# Altium integrated library Spansion Memory Flash.IntLib: 812 symbols (part 21 of 21)
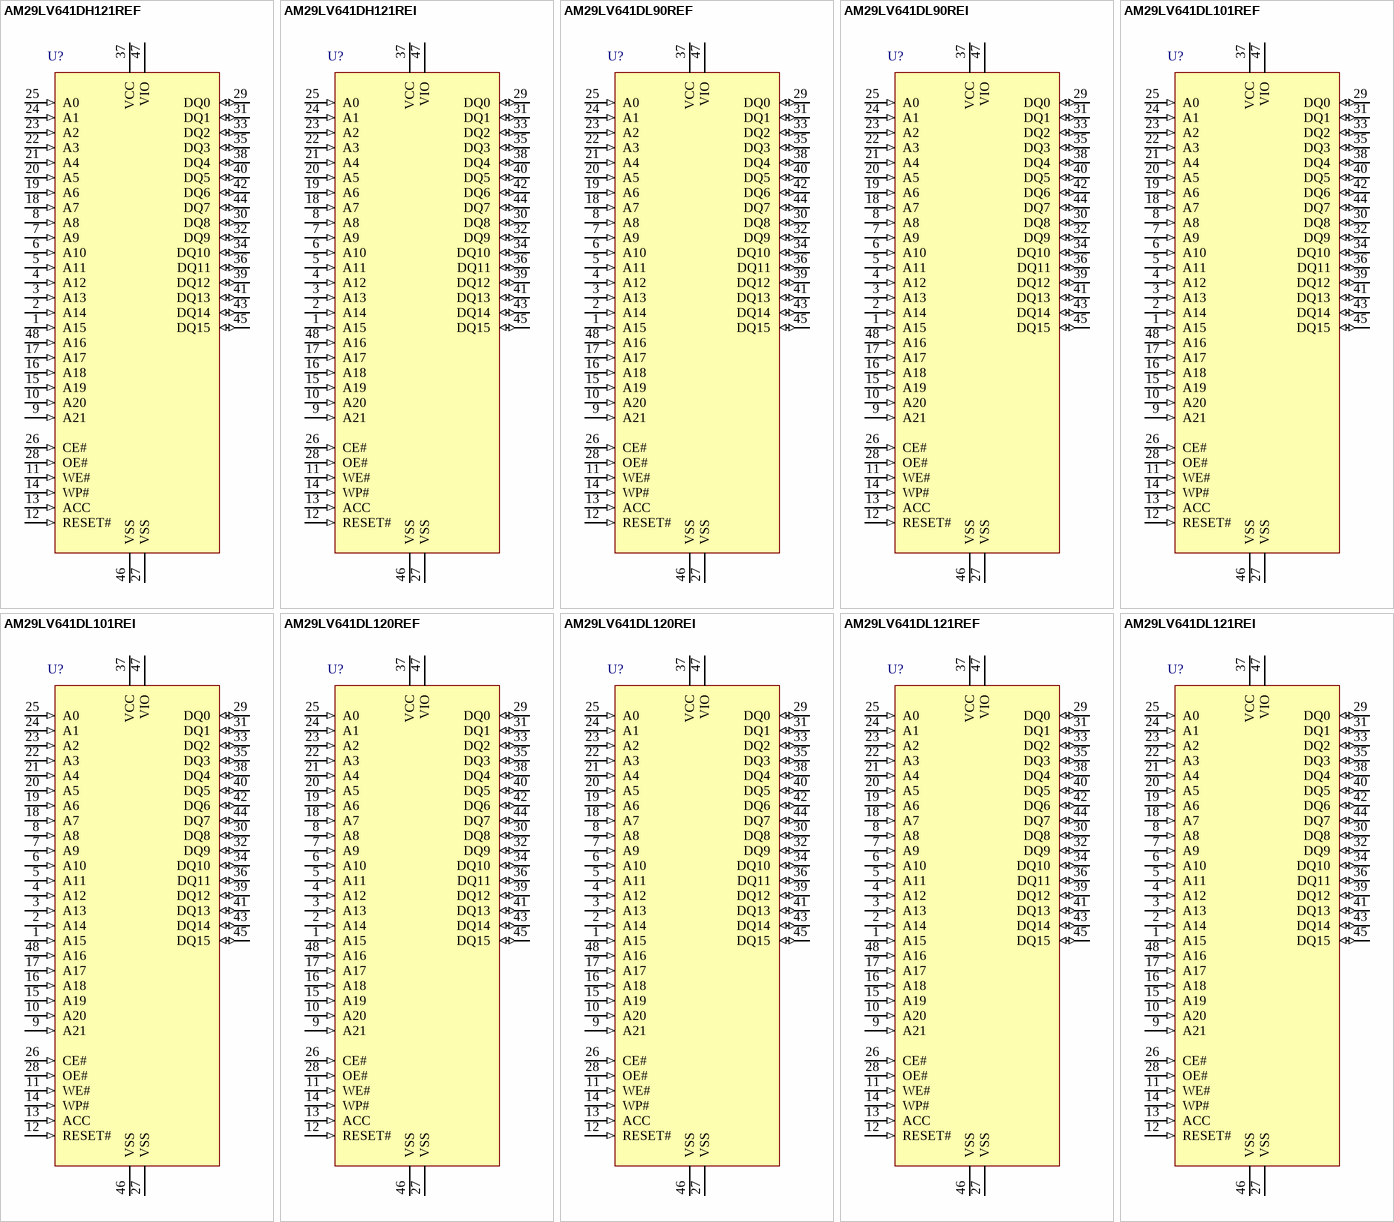
[diagram p86: symbols AM29LV641DH121REF to AM29LV641DL121REI]

## AM29LV641DL90REI
designator U?
64 Mb (4 M x 16) CMOS 3.0 Volt, Uniform Sector Flash Memory with VersatileI/O Control, 48-Pin TSOP, Industrial Grade; Published: 6-Jun-2005; LatestRevisionDate: 06-Oct-2005; LatestRevisionNote: Schematic layout and Library name changed.; DatasheetVersion: Feb-2005; PackageVersion: revAA, 10/99; PackageReference: TS048; Publisher: Altium Limited; PackageDescription: Shrink Small Outline; 48 Leads; Body Width 18.4 mm; Pitch 0.5 mm; Code_JEDEC: MO-142-DD; ComponentLink1Description: Manufacturer Link; ComponentLink1URL: http://www.spansion.com/; ComponentLink2Description: Datasheet; ComponentLink2URL: http://www.spansion.com/datasheets/22366c3.pdf
footprint TS048 (Shrink Small Outline; 48 Leads; Body Width 18.4 mm; Pitch 0.5 mm)
3D model TS048 (Shrink Small Outline; 48 Leads; Body Width 18.4 mm; Pitch 0.5 mm)
pins: 1 A15 (in), 2 A14 (in), 3 A13 (in), 4 A12 (in), 5 A11 (in), 6 A10 (in), 7 A9 (in), 8 A8 (in), 9 A21 (in), 10 A20 (in), 11 WE# (in), 12 RESET# (in), 13 ACC (in), 14 WP# (in), 15 A19 (in), 16 A18 (in), 17 A17 (in), 18 A7 (in), 19 A6 (in), 20 A5 (in), 21 A4 (in), 22 A3 (in), 23 A2 (in), 24 A1 (in), 25 A0 (in), 26 CE# (in), 27 VSS (power), 28 OE# (in), 29 DQ0 (io), 30 DQ8 (io), 31 DQ1 (io), 32 DQ9 (io), 33 DQ2 (io), 34 DQ10 (io), 35 DQ3 (io), 36 DQ11 (io), 37 VCC (power), 38 DQ4 (io), 39 DQ12 (io), 40 DQ5 (io), 41 DQ13 (io), 42 DQ6 (io), 43 DQ14 (io), 44 DQ7 (io), 45 DQ15 (io), 46 VSS (power), 47 VIO (power), 48 A16 (in)

## AM29LV641DL101REF
designator U?
64 Mb (4 M x 16) CMOS 3.0 Volt, Uniform Sector Flash Memory with VersatileI/O Control, 48-Pin TSOP, Industrial Grade, Pb-free; Published: 6-Jun-2005; LatestRevisionDate: 06-Oct-2005; LatestRevisionNote: Schematic layout and Library name changed.; DatasheetVersion: Feb-2005; PackageVersion: revAA, 10/99; PackageReference: TS048; Publisher: Altium Limited; PackageDescription: Shrink Small Outline; 48 Leads; Body Width 18.4 mm; Pitch 0.5 mm; Code_JEDEC: MO-142-DD; ComponentLink1Description: Manufacturer Link; ComponentLink1URL: http://www.spansion.com/; ComponentLink2Description: Datasheet; ComponentLink2URL: http://www.spansion.com/datasheets/22366c3.pdf
footprint TS048 (Shrink Small Outline; 48 Leads; Body Width 18.4 mm; Pitch 0.5 mm)
3D model TS048 (Shrink Small Outline; 48 Leads; Body Width 18.4 mm; Pitch 0.5 mm)
pins: 1 A15 (in), 2 A14 (in), 3 A13 (in), 4 A12 (in), 5 A11 (in), 6 A10 (in), 7 A9 (in), 8 A8 (in), 9 A21 (in), 10 A20 (in), 11 WE# (in), 12 RESET# (in), 13 ACC (in), 14 WP# (in), 15 A19 (in), 16 A18 (in), 17 A17 (in), 18 A7 (in), 19 A6 (in), 20 A5 (in), 21 A4 (in), 22 A3 (in), 23 A2 (in), 24 A1 (in), 25 A0 (in), 26 CE# (in), 27 VSS (power), 28 OE# (in), 29 DQ0 (io), 30 DQ8 (io), 31 DQ1 (io), 32 DQ9 (io), 33 DQ2 (io), 34 DQ10 (io), 35 DQ3 (io), 36 DQ11 (io), 37 VCC (power), 38 DQ4 (io), 39 DQ12 (io), 40 DQ5 (io), 41 DQ13 (io), 42 DQ6 (io), 43 DQ14 (io), 44 DQ7 (io), 45 DQ15 (io), 46 VSS (power), 47 VIO (power), 48 A16 (in)

## AM29LV641DL101REI
designator U?
64 Mb (4 M x 16) CMOS 3.0 Volt, Uniform Sector Flash Memory with VersatileI/O Control, 48-Pin TSOP, Industrial Grade; Published: 6-Jun-2005; LatestRevisionDate: 06-Oct-2005; LatestRevisionNote: Schematic layout and Library name changed.; DatasheetVersion: Feb-2005; PackageVersion: revAA, 10/99; PackageReference: TS048; Publisher: Altium Limited; PackageDescription: Shrink Small Outline; 48 Leads; Body Width 18.4 mm; Pitch 0.5 mm; Code_JEDEC: MO-142-DD; ComponentLink1Description: Manufacturer Link; ComponentLink1URL: http://www.spansion.com/; ComponentLink2Description: Datasheet; ComponentLink2URL: http://www.spansion.com/datasheets/22366c3.pdf
footprint TS048 (Shrink Small Outline; 48 Leads; Body Width 18.4 mm; Pitch 0.5 mm)
3D model TS048 (Shrink Small Outline; 48 Leads; Body Width 18.4 mm; Pitch 0.5 mm)
pins: 1 A15 (in), 2 A14 (in), 3 A13 (in), 4 A12 (in), 5 A11 (in), 6 A10 (in), 7 A9 (in), 8 A8 (in), 9 A21 (in), 10 A20 (in), 11 WE# (in), 12 RESET# (in), 13 ACC (in), 14 WP# (in), 15 A19 (in), 16 A18 (in), 17 A17 (in), 18 A7 (in), 19 A6 (in), 20 A5 (in), 21 A4 (in), 22 A3 (in), 23 A2 (in), 24 A1 (in), 25 A0 (in), 26 CE# (in), 27 VSS (power), 28 OE# (in), 29 DQ0 (io), 30 DQ8 (io), 31 DQ1 (io), 32 DQ9 (io), 33 DQ2 (io), 34 DQ10 (io), 35 DQ3 (io), 36 DQ11 (io), 37 VCC (power), 38 DQ4 (io), 39 DQ12 (io), 40 DQ5 (io), 41 DQ13 (io), 42 DQ6 (io), 43 DQ14 (io), 44 DQ7 (io), 45 DQ15 (io), 46 VSS (power), 47 VIO (power), 48 A16 (in)

## AM29LV641DL120REF
designator U?
64 Mb (4 M x 16) CMOS 3.0 Volt, Uniform Sector Flash Memory with VersatileI/O Control, 48-Pin TSOP, Industrial Grade, Pb-free; Published: 6-Jun-2005; LatestRevisionDate: 06-Oct-2005; LatestRevisionNote: Schematic layout and Library name changed.; DatasheetVersion: Feb-2005; PackageVersion: revAA, 10/99; PackageReference: TS048; Publisher: Altium Limited; PackageDescription: Shrink Small Outline; 48 Leads; Body Width 18.4 mm; Pitch 0.5 mm; Code_JEDEC: MO-142-DD; ComponentLink1Description: Manufacturer Link; ComponentLink1URL: http://www.spansion.com/; ComponentLink2Description: Datasheet; ComponentLink2URL: http://www.spansion.com/datasheets/22366c3.pdf
footprint TS048 (Shrink Small Outline; 48 Leads; Body Width 18.4 mm; Pitch 0.5 mm)
3D model TS048 (Shrink Small Outline; 48 Leads; Body Width 18.4 mm; Pitch 0.5 mm)
pins: 1 A15 (in), 2 A14 (in), 3 A13 (in), 4 A12 (in), 5 A11 (in), 6 A10 (in), 7 A9 (in), 8 A8 (in), 9 A21 (in), 10 A20 (in), 11 WE# (in), 12 RESET# (in), 13 ACC (in), 14 WP# (in), 15 A19 (in), 16 A18 (in), 17 A17 (in), 18 A7 (in), 19 A6 (in), 20 A5 (in), 21 A4 (in), 22 A3 (in), 23 A2 (in), 24 A1 (in), 25 A0 (in), 26 CE# (in), 27 VSS (power), 28 OE# (in), 29 DQ0 (io), 30 DQ8 (io), 31 DQ1 (io), 32 DQ9 (io), 33 DQ2 (io), 34 DQ10 (io), 35 DQ3 (io), 36 DQ11 (io), 37 VCC (power), 38 DQ4 (io), 39 DQ12 (io), 40 DQ5 (io), 41 DQ13 (io), 42 DQ6 (io), 43 DQ14 (io), 44 DQ7 (io), 45 DQ15 (io), 46 VSS (power), 47 VIO (power), 48 A16 (in)

## AM29LV641DL120REI
designator U?
64 Mb (4 M x 16) CMOS 3.0 Volt, Uniform Sector Flash Memory with VersatileI/O Control, 48-Pin TSOP, Industrial Grade; Published: 6-Jun-2005; LatestRevisionDate: 06-Oct-2005; LatestRevisionNote: Schematic layout and Library name changed.; DatasheetVersion: Feb-2005; PackageVersion: revAA, 10/99; PackageReference: TS048; Publisher: Altium Limited; PackageDescription: Shrink Small Outline; 48 Leads; Body Width 18.4 mm; Pitch 0.5 mm; Code_JEDEC: MO-142-DD; ComponentLink1Description: Manufacturer Link; ComponentLink1URL: http://www.spansion.com/; ComponentLink2Description: Datasheet; ComponentLink2URL: http://www.spansion.com/datasheets/22366c3.pdf
footprint TS048 (Shrink Small Outline; 48 Leads; Body Width 18.4 mm; Pitch 0.5 mm)
3D model TS048 (Shrink Small Outline; 48 Leads; Body Width 18.4 mm; Pitch 0.5 mm)
pins: 1 A15 (in), 2 A14 (in), 3 A13 (in), 4 A12 (in), 5 A11 (in), 6 A10 (in), 7 A9 (in), 8 A8 (in), 9 A21 (in), 10 A20 (in), 11 WE# (in), 12 RESET# (in), 13 ACC (in), 14 WP# (in), 15 A19 (in), 16 A18 (in), 17 A17 (in), 18 A7 (in), 19 A6 (in), 20 A5 (in), 21 A4 (in), 22 A3 (in), 23 A2 (in), 24 A1 (in), 25 A0 (in), 26 CE# (in), 27 VSS (power), 28 OE# (in), 29 DQ0 (io), 30 DQ8 (io), 31 DQ1 (io), 32 DQ9 (io), 33 DQ2 (io), 34 DQ10 (io), 35 DQ3 (io), 36 DQ11 (io), 37 VCC (power), 38 DQ4 (io), 39 DQ12 (io), 40 DQ5 (io), 41 DQ13 (io), 42 DQ6 (io), 43 DQ14 (io), 44 DQ7 (io), 45 DQ15 (io), 46 VSS (power), 47 VIO (power), 48 A16 (in)

## AM29LV641DL121REF
designator U?
64 Mb (4 M x 16) CMOS 3.0 Volt, Uniform Sector Flash Memory with VersatileI/O Control, 48-Pin TSOP, Industrial Grade, Pb-free; Published: 6-Jun-2005; LatestRevisionDate: 06-Oct-2005; LatestRevisionNote: Schematic layout and Library name changed.; DatasheetVersion: Feb-2005; PackageVersion: revAA, 10/99; PackageReference: TS048; Publisher: Altium Limited; PackageDescription: Shrink Small Outline; 48 Leads; Body Width 18.4 mm; Pitch 0.5 mm; Code_JEDEC: MO-142-DD; ComponentLink1Description: Manufacturer Link; ComponentLink1URL: http://www.spansion.com/; ComponentLink2Description: Datasheet; ComponentLink2URL: http://www.spansion.com/datasheets/22366c3.pdf
footprint TS048 (Shrink Small Outline; 48 Leads; Body Width 18.4 mm; Pitch 0.5 mm)
3D model TS048 (Shrink Small Outline; 48 Leads; Body Width 18.4 mm; Pitch 0.5 mm)
pins: 1 A15 (in), 2 A14 (in), 3 A13 (in), 4 A12 (in), 5 A11 (in), 6 A10 (in), 7 A9 (in), 8 A8 (in), 9 A21 (in), 10 A20 (in), 11 WE# (in), 12 RESET# (in), 13 ACC (in), 14 WP# (in), 15 A19 (in), 16 A18 (in), 17 A17 (in), 18 A7 (in), 19 A6 (in), 20 A5 (in), 21 A4 (in), 22 A3 (in), 23 A2 (in), 24 A1 (in), 25 A0 (in), 26 CE# (in), 27 VSS (power), 28 OE# (in), 29 DQ0 (io), 30 DQ8 (io), 31 DQ1 (io), 32 DQ9 (io), 33 DQ2 (io), 34 DQ10 (io), 35 DQ3 (io), 36 DQ11 (io), 37 VCC (power), 38 DQ4 (io), 39 DQ12 (io), 40 DQ5 (io), 41 DQ13 (io), 42 DQ6 (io), 43 DQ14 (io), 44 DQ7 (io), 45 DQ15 (io), 46 VSS (power), 47 VIO (power), 48 A16 (in)

## AM29LV641DL121REI
designator U?
64 Mb (4 M x 16) CMOS 3.0 Volt, Uniform Sector Flash Memory with VersatileI/O Control, 48-Pin TSOP, Industrial Grade; Published: 6-Jun-2005; LatestRevisionDate: 06-Oct-2005; LatestRevisionNote: Schematic layout and Library name changed.; DatasheetVersion: Feb-2005; PackageVersion: revAA, 10/99; PackageReference: TS048; Publisher: Altium Limited; PackageDescription: Shrink Small Outline; 48 Leads; Body Width 18.4 mm; Pitch 0.5 mm; Code_JEDEC: MO-142-DD; ComponentLink1Description: Manufacturer Link; ComponentLink1URL: http://www.spansion.com/; ComponentLink2Description: Datasheet; ComponentLink2URL: http://www.spansion.com/datasheets/22366c3.pdf
footprint TS048 (Shrink Small Outline; 48 Leads; Body Width 18.4 mm; Pitch 0.5 mm)
3D model TS048 (Shrink Small Outline; 48 Leads; Body Width 18.4 mm; Pitch 0.5 mm)
pins: 1 A15 (in), 2 A14 (in), 3 A13 (in), 4 A12 (in), 5 A11 (in), 6 A10 (in), 7 A9 (in), 8 A8 (in), 9 A21 (in), 10 A20 (in), 11 WE# (in), 12 RESET# (in), 13 ACC (in), 14 WP# (in), 15 A19 (in), 16 A18 (in), 17 A17 (in), 18 A7 (in), 19 A6 (in), 20 A5 (in), 21 A4 (in), 22 A3 (in), 23 A2 (in), 24 A1 (in), 25 A0 (in), 26 CE# (in), 27 VSS (power), 28 OE# (in), 29 DQ0 (io), 30 DQ8 (io), 31 DQ1 (io), 32 DQ9 (io), 33 DQ2 (io), 34 DQ10 (io), 35 DQ3 (io), 36 DQ11 (io), 37 VCC (power), 38 DQ4 (io), 39 DQ12 (io), 40 DQ5 (io), 41 DQ13 (io), 42 DQ6 (io), 43 DQ14 (io), 44 DQ7 (io), 45 DQ15 (io), 46 VSS (power), 47 VIO (power), 48 A16 (in)

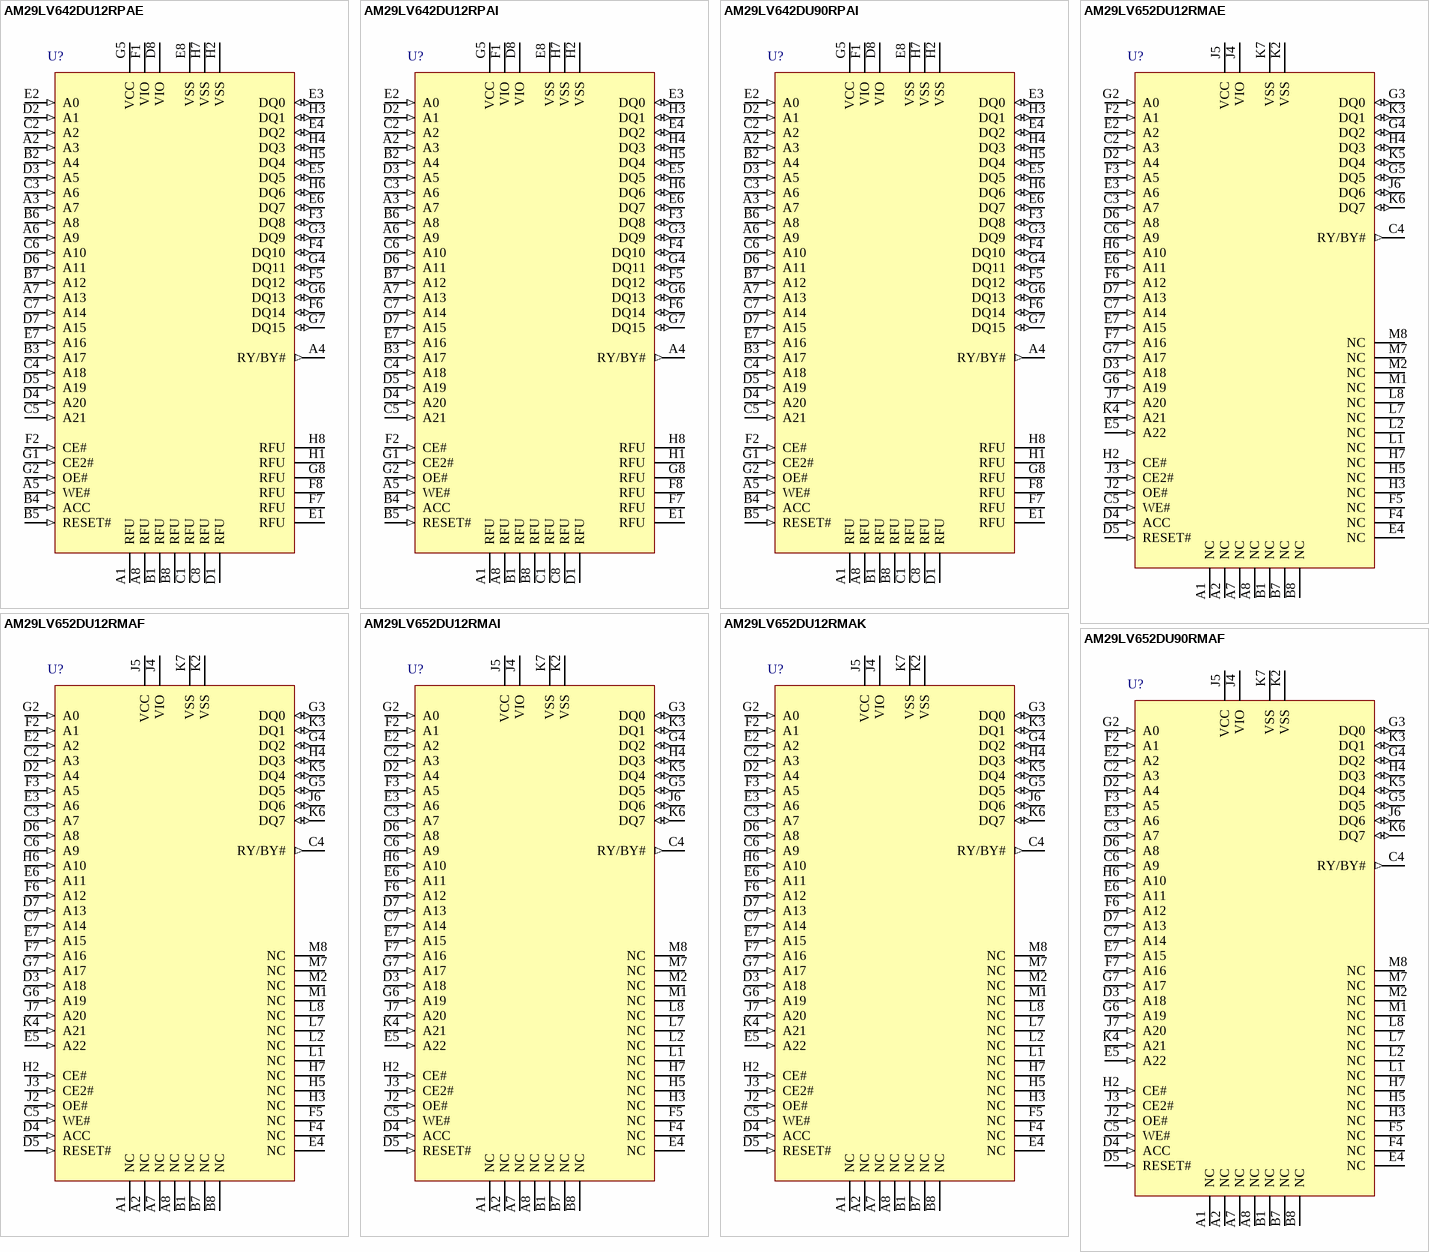
[diagram p65: symbols AM29LV642DU12RPAE to AM29LV652DU90RMAF]

## AM29LV642DU12RPAE
designator U?
128 Mb (8 M x 16) CMOS 3.0 Volt Uniform Sector Flash Memory with VersatileI/O control, 64-Ball Fortified BGA, Extended Grade; Published: 6-Oct-2005; LatestRevisionDate: 13-Apr-2006; LatestRevisionNote: IPC-7351 Footprint Added.; DatasheetVersion: Aug-2001; PackageVersion: Aug-2001; PackageReference: LSA064; Publisher: Altium Limited; PackageDescription: 64-Ball Fortified Ball Grid Array Rectangular 1 mm Pitch; ComponentLink1Description: Manufacturer Link; ComponentLink1URL: http://www.spansion.com/; ComponentLink2Description: Datasheet; ComponentLink2URL: http://www.spansion.com/datasheets/25022.pdf
footprint LSA064 (BGA, 64-Leads, Body 13x11mm, Pitch 1mm)
pins: A1 RFU, A2 A3 (in), A3 A7 (in), A4 RY/BY# (out), A5 WE# (in), A6 A9 (in), A7 A13 (in), A8 RFU, B1 RFU, B2 A4 (in), B3 A17 (in), B4 ACC (in), B5 RESET# (in), B6 A8 (in), B7 A12 (in), B8 RFU, C1 RFU, C2 A2 (in), C3 A6 (in), C4 A18 (in), C5 A21 (in), C6 A10 (in), C7 A14 (in), C8 RFU, D1 RFU, D2 A1 (in), D3 A5 (in), D4 A20 (in), D5 A19 (in), D6 A11 (in), D7 A15 (in), D8 VIO (power), E1 RFU, E2 A0 (in), E3 DQ0 (io), E4 DQ2 (io), E5 DQ5 (io), E6 DQ7 (io), E7 A16 (in), E8 VSS (power), F1 VIO (power), F2 CE# (in), F3 DQ8 (io), F4 DQ10 (io), F5 DQ12 (io), F6 DQ14 (io), F7 RFU, F8 RFU, G1 CE2# (in), G2 OE# (in), G3 DQ9 (io), G4 DQ11 (io), G5 VCC (power), G6 DQ13 (io), G7 DQ15 (io), G8 RFU, H1 RFU, H2 VSS (power), H3 DQ1 (io), H4 DQ3 (io), H5 DQ4 (io), H6 DQ6 (io), H7 VSS (power), H8 RFU

## AM29LV642DU12RPAI
designator U?
128 Mb (8 M x 16) CMOS 3.0 Volt Uniform Sector Flash Memory with VersatileI/O control, 64-Ball Fortified BGA, Industrial Grade; Published: 6-Oct-2005; LatestRevisionDate: 13-Apr-2006; LatestRevisionNote: IPC-7351 Footprint Added.; DatasheetVersion: Aug-2001; PackageVersion: Aug-2001; PackageReference: LSA064; Publisher: Altium Limited; PackageDescription: 64-Ball Fortified Ball Grid Array Rectangular 1 mm Pitch; ComponentLink1Description: Manufacturer Link; ComponentLink1URL: http://www.spansion.com/; ComponentLink2Description: Datasheet; ComponentLink2URL: http://www.spansion.com/datasheets/25022.pdf
footprint LSA064 (BGA, 64-Leads, Body 13x11mm, Pitch 1mm)
pins: A1 RFU, A2 A3 (in), A3 A7 (in), A4 RY/BY# (out), A5 WE# (in), A6 A9 (in), A7 A13 (in), A8 RFU, B1 RFU, B2 A4 (in), B3 A17 (in), B4 ACC (in), B5 RESET# (in), B6 A8 (in), B7 A12 (in), B8 RFU, C1 RFU, C2 A2 (in), C3 A6 (in), C4 A18 (in), C5 A21 (in), C6 A10 (in), C7 A14 (in), C8 RFU, D1 RFU, D2 A1 (in), D3 A5 (in), D4 A20 (in), D5 A19 (in), D6 A11 (in), D7 A15 (in), D8 VIO (power), E1 RFU, E2 A0 (in), E3 DQ0 (io), E4 DQ2 (io), E5 DQ5 (io), E6 DQ7 (io), E7 A16 (in), E8 VSS (power), F1 VIO (power), F2 CE# (in), F3 DQ8 (io), F4 DQ10 (io), F5 DQ12 (io), F6 DQ14 (io), F7 RFU, F8 RFU, G1 CE2# (in), G2 OE# (in), G3 DQ9 (io), G4 DQ11 (io), G5 VCC (power), G6 DQ13 (io), G7 DQ15 (io), G8 RFU, H1 RFU, H2 VSS (power), H3 DQ1 (io), H4 DQ3 (io), H5 DQ4 (io), H6 DQ6 (io), H7 VSS (power), H8 RFU

## AM29LV642DU90RPAI
designator U?
128 Mb (8 M x 16) CMOS 3.0 Volt Uniform Sector Flash Memory with VersatileI/O control, 64-Ball Fortified BGA, Industrial Grade; Published: 6-Oct-2005; LatestRevisionDate: 13-Apr-2006; LatestRevisionNote: IPC-7351 Footprint Added.; DatasheetVersion: Aug-2001; PackageVersion: Aug-2001; PackageReference: LSA064; Publisher: Altium Limited; PackageDescription: 64-Ball Fortified Ball Grid Array Rectangular 1 mm Pitch; ComponentLink1Description: Manufacturer Link; ComponentLink1URL: http://www.spansion.com/; ComponentLink2Description: Datasheet; ComponentLink2URL: http://www.spansion.com/datasheets/25022.pdf
footprint LSA064 (BGA, 64-Leads, Body 13x11mm, Pitch 1mm)
pins: A1 RFU, A2 A3 (in), A3 A7 (in), A4 RY/BY# (out), A5 WE# (in), A6 A9 (in), A7 A13 (in), A8 RFU, B1 RFU, B2 A4 (in), B3 A17 (in), B4 ACC (in), B5 RESET# (in), B6 A8 (in), B7 A12 (in), B8 RFU, C1 RFU, C2 A2 (in), C3 A6 (in), C4 A18 (in), C5 A21 (in), C6 A10 (in), C7 A14 (in), C8 RFU, D1 RFU, D2 A1 (in), D3 A5 (in), D4 A20 (in), D5 A19 (in), D6 A11 (in), D7 A15 (in), D8 VIO (power), E1 RFU, E2 A0 (in), E3 DQ0 (io), E4 DQ2 (io), E5 DQ5 (io), E6 DQ7 (io), E7 A16 (in), E8 VSS (power), F1 VIO (power), F2 CE# (in), F3 DQ8 (io), F4 DQ10 (io), F5 DQ12 (io), F6 DQ14 (io), F7 RFU, F8 RFU, G1 CE2# (in), G2 OE# (in), G3 DQ9 (io), G4 DQ11 (io), G5 VCC (power), G6 DQ13 (io), G7 DQ15 (io), G8 RFU, H1 RFU, H2 VSS (power), H3 DQ1 (io), H4 DQ3 (io), H5 DQ4 (io), H6 DQ6 (io), H7 VSS (power), H8 RFU

## AM29LV652DU12RMAE
designator U?
128 Mb (16 M x 8) CMOS 3.0 Volt Uniform Sector Flash Memory with VersatileI/O control, 63-Ball FBGA, Extended Grade; Published: 6-Oct-2005; LatestRevisionDate: 13-Apr-2006; LatestRevisionNote: IPC-7351 Footprint Added.; DatasheetVersion: Oct-2004; PackageVersion: Oct-2004; PackageReference: FSA063; Publisher: Altium Limited; PackageDescription: 63-Ball Fine Pitch Ball Grid Array Rectangular 0.8 mm Pitch; ComponentLink1Description: Manufacturer Link; ComponentLink1URL: http://www.spansion.com/; ComponentLink2Description: Datasheet; ComponentLink2URL: http://www.spansion.com/datasheets/24961a4.pdf
footprint FSA063 (BGA, 63-Leads, Body 12x11mm, Pitch 0.8mm)
pins: A1 NC, A2 NC, A7 NC, A8 NC, B1 NC, B7 NC, B8 NC, C2 A3 (in), C3 A7 (in), C4 RY/BY# (out), C5 WE# (in), C6 A9 (in), C7 A14 (in), D2 A4 (in), D3 A18 (in), D4 ACC (in), D5 RESET# (in), D6 A8 (in), D7 A13 (in), E2 A2 (in), E3 A6 (in), E4 NC, E5 A22 (in), E6 A11 (in), E7 A15 (in), F2 A1 (in), F3 A5 (in), F4 NC, F5 NC, F6 A12 (in), F7 A16 (in), G2 A0 (in), G3 DQ0 (io), G4 DQ2 (io), G5 DQ5 (io), G6 A19 (in), G7 A17 (in), H2 CE# (in), H3 NC, H4 DQ3 (io), H5 NC, H6 A10 (in), H7 NC, J2 OE# (in), J3 CE2# (in), J4 VIO (power), J5 VCC (power), J6 DQ6 (io), J7 A20 (in), K2 VSS (power), K3 DQ1 (io), K4 A21 (in), K5 DQ4 (io), K6 DQ7 (io), K7 VSS (power), L1 NC, L2 NC, L7 NC, L8 NC, M1 NC, M2 NC, M7 NC, M8 NC

## AM29LV652DU12RMAF
designator U?
128 Mb (16 M x 8) CMOS 3.0 Volt Uniform Sector Flash Memory with VersatileI/O control, 63-Ball FBGA, Industrial Grade, Pb-free; Published: 6-Oct-2005; LatestRevisionDate: 13-Apr-2006; LatestRevisionNote: IPC-7351 Footprint Added.; DatasheetVersion: Oct-2004; PackageVersion: Oct-2004; PackageReference: FSA063; Publisher: Altium Limited; PackageDescription: 63-Ball Fine Pitch Ball Grid Array Rectangular 0.8 mm Pitch; ComponentLink1Description: Manufacturer Link; ComponentLink1URL: http://www.spansion.com/; ComponentLink2Description: Datasheet; ComponentLink2URL: http://www.spansion.com/datasheets/24961a4.pdf
footprint FSA063 (BGA, 63-Leads, Body 12x11mm, Pitch 0.8mm)
pins: A1 NC, A2 NC, A7 NC, A8 NC, B1 NC, B7 NC, B8 NC, C2 A3 (in), C3 A7 (in), C4 RY/BY# (out), C5 WE# (in), C6 A9 (in), C7 A14 (in), D2 A4 (in), D3 A18 (in), D4 ACC (in), D5 RESET# (in), D6 A8 (in), D7 A13 (in), E2 A2 (in), E3 A6 (in), E4 NC, E5 A22 (in), E6 A11 (in), E7 A15 (in), F2 A1 (in), F3 A5 (in), F4 NC, F5 NC, F6 A12 (in), F7 A16 (in), G2 A0 (in), G3 DQ0 (io), G4 DQ2 (io), G5 DQ5 (io), G6 A19 (in), G7 A17 (in), H2 CE# (in), H3 NC, H4 DQ3 (io), H5 NC, H6 A10 (in), H7 NC, J2 OE# (in), J3 CE2# (in), J4 VIO (power), J5 VCC (power), J6 DQ6 (io), J7 A20 (in), K2 VSS (power), K3 DQ1 (io), K4 A21 (in), K5 DQ4 (io), K6 DQ7 (io), K7 VSS (power), L1 NC, L2 NC, L7 NC, L8 NC, M1 NC, M2 NC, M7 NC, M8 NC

## AM29LV652DU12RMAI
designator U?
128 Mb (16 M x 8) CMOS 3.0 Volt Uniform Sector Flash Memory with VersatileI/O control, 63-Ball FBGA, Industrial Grade; Published: 6-Oct-2005; LatestRevisionDate: 13-Apr-2006; LatestRevisionNote: IPC-7351 Footprint Added.; DatasheetVersion: Oct-2004; PackageVersion: Oct-2004; PackageReference: FSA063; Publisher: Altium Limited; PackageDescription: 63-Ball Fine Pitch Ball Grid Array Rectangular 0.8 mm Pitch; ComponentLink1Description: Manufacturer Link; ComponentLink1URL: http://www.spansion.com/; ComponentLink2Description: Datasheet; ComponentLink2URL: http://www.spansion.com/datasheets/24961a4.pdf
footprint FSA063 (BGA, 63-Leads, Body 12x11mm, Pitch 0.8mm)
pins: A1 NC, A2 NC, A7 NC, A8 NC, B1 NC, B7 NC, B8 NC, C2 A3 (in), C3 A7 (in), C4 RY/BY# (out), C5 WE# (in), C6 A9 (in), C7 A14 (in), D2 A4 (in), D3 A18 (in), D4 ACC (in), D5 RESET# (in), D6 A8 (in), D7 A13 (in), E2 A2 (in), E3 A6 (in), E4 NC, E5 A22 (in), E6 A11 (in), E7 A15 (in), F2 A1 (in), F3 A5 (in), F4 NC, F5 NC, F6 A12 (in), F7 A16 (in), G2 A0 (in), G3 DQ0 (io), G4 DQ2 (io), G5 DQ5 (io), G6 A19 (in), G7 A17 (in), H2 CE# (in), H3 NC, H4 DQ3 (io), H5 NC, H6 A10 (in), H7 NC, J2 OE# (in), J3 CE2# (in), J4 VIO (power), J5 VCC (power), J6 DQ6 (io), J7 A20 (in), K2 VSS (power), K3 DQ1 (io), K4 A21 (in), K5 DQ4 (io), K6 DQ7 (io), K7 VSS (power), L1 NC, L2 NC, L7 NC, L8 NC, M1 NC, M2 NC, M7 NC, M8 NC

## AM29LV652DU12RMAK
designator U?
128 Mb (16 M x 8) CMOS 3.0 Volt Uniform Sector Flash Memory with VersatileI/O control, 63-Ball FBGA, Extended Grade, Pb-free; Published: 6-Oct-2005; LatestRevisionDate: 13-Apr-2006; LatestRevisionNote: IPC-7351 Footprint Added.; DatasheetVersion: Oct-2004; PackageVersion: Oct-2004; PackageReference: FSA063; Publisher: Altium Limited; PackageDescription: 63-Ball Fine Pitch Ball Grid Array Rectangular 0.8 mm Pitch; ComponentLink1Description: Manufacturer Link; ComponentLink1URL: http://www.spansion.com/; ComponentLink2Description: Datasheet; ComponentLink2URL: http://www.spansion.com/datasheets/24961a4.pdf
footprint FSA063 (BGA, 63-Leads, Body 12x11mm, Pitch 0.8mm)
pins: A1 NC, A2 NC, A7 NC, A8 NC, B1 NC, B7 NC, B8 NC, C2 A3 (in), C3 A7 (in), C4 RY/BY# (out), C5 WE# (in), C6 A9 (in), C7 A14 (in), D2 A4 (in), D3 A18 (in), D4 ACC (in), D5 RESET# (in), D6 A8 (in), D7 A13 (in), E2 A2 (in), E3 A6 (in), E4 NC, E5 A22 (in), E6 A11 (in), E7 A15 (in), F2 A1 (in), F3 A5 (in), F4 NC, F5 NC, F6 A12 (in), F7 A16 (in), G2 A0 (in), G3 DQ0 (io), G4 DQ2 (io), G5 DQ5 (io), G6 A19 (in), G7 A17 (in), H2 CE# (in), H3 NC, H4 DQ3 (io), H5 NC, H6 A10 (in), H7 NC, J2 OE# (in), J3 CE2# (in), J4 VIO (power), J5 VCC (power), J6 DQ6 (io), J7 A20 (in), K2 VSS (power), K3 DQ1 (io), K4 A21 (in), K5 DQ4 (io), K6 DQ7 (io), K7 VSS (power), L1 NC, L2 NC, L7 NC, L8 NC, M1 NC, M2 NC, M7 NC, M8 NC

## AM29LV652DU90RMAF
designator U?
128 Mb (16 M x 8) CMOS 3.0 Volt Uniform Sector Flash Memory with VersatileI/O control, 63-Ball FBGA, Industrial Grade, Pb-free; Published: 6-Oct-2005; LatestRevisionDate: 13-Apr-2006; LatestRevisionNote: IPC-7351 Footprint Added.; DatasheetVersion: Oct-2004; PackageVersion: Oct-2004; PackageReference: FSA063; Publisher: Altium Limited; PackageDescription: 63-Ball Fine Pitch Ball Grid Array Rectangular 0.8 mm Pitch; ComponentLink1Description: Manufacturer Link; ComponentLink1URL: http://www.spansion.com/; ComponentLink2Description: Datasheet; ComponentLink2URL: http://www.spansion.com/datasheets/24961a4.pdf
footprint FSA063 (BGA, 63-Leads, Body 12x11mm, Pitch 0.8mm)
pins: A1 NC, A2 NC, A7 NC, A8 NC, B1 NC, B7 NC, B8 NC, C2 A3 (in), C3 A7 (in), C4 RY/BY# (out), C5 WE# (in), C6 A9 (in), C7 A14 (in), D2 A4 (in), D3 A18 (in), D4 ACC (in), D5 RESET# (in), D6 A8 (in), D7 A13 (in), E2 A2 (in), E3 A6 (in), E4 NC, E5 A22 (in), E6 A11 (in), E7 A15 (in), F2 A1 (in), F3 A5 (in), F4 NC, F5 NC, F6 A12 (in), F7 A16 (in), G2 A0 (in), G3 DQ0 (io), G4 DQ2 (io), G5 DQ5 (io), G6 A19 (in), G7 A17 (in), H2 CE# (in), H3 NC, H4 DQ3 (io), H5 NC, H6 A10 (in), H7 NC, J2 OE# (in), J3 CE2# (in), J4 VIO (power), J5 VCC (power), J6 DQ6 (io), J7 A20 (in), K2 VSS (power), K3 DQ1 (io), K4 A21 (in), K5 DQ4 (io), K6 DQ7 (io), K7 VSS (power), L1 NC, L2 NC, L7 NC, L8 NC, M1 NC, M2 NC, M7 NC, M8 NC

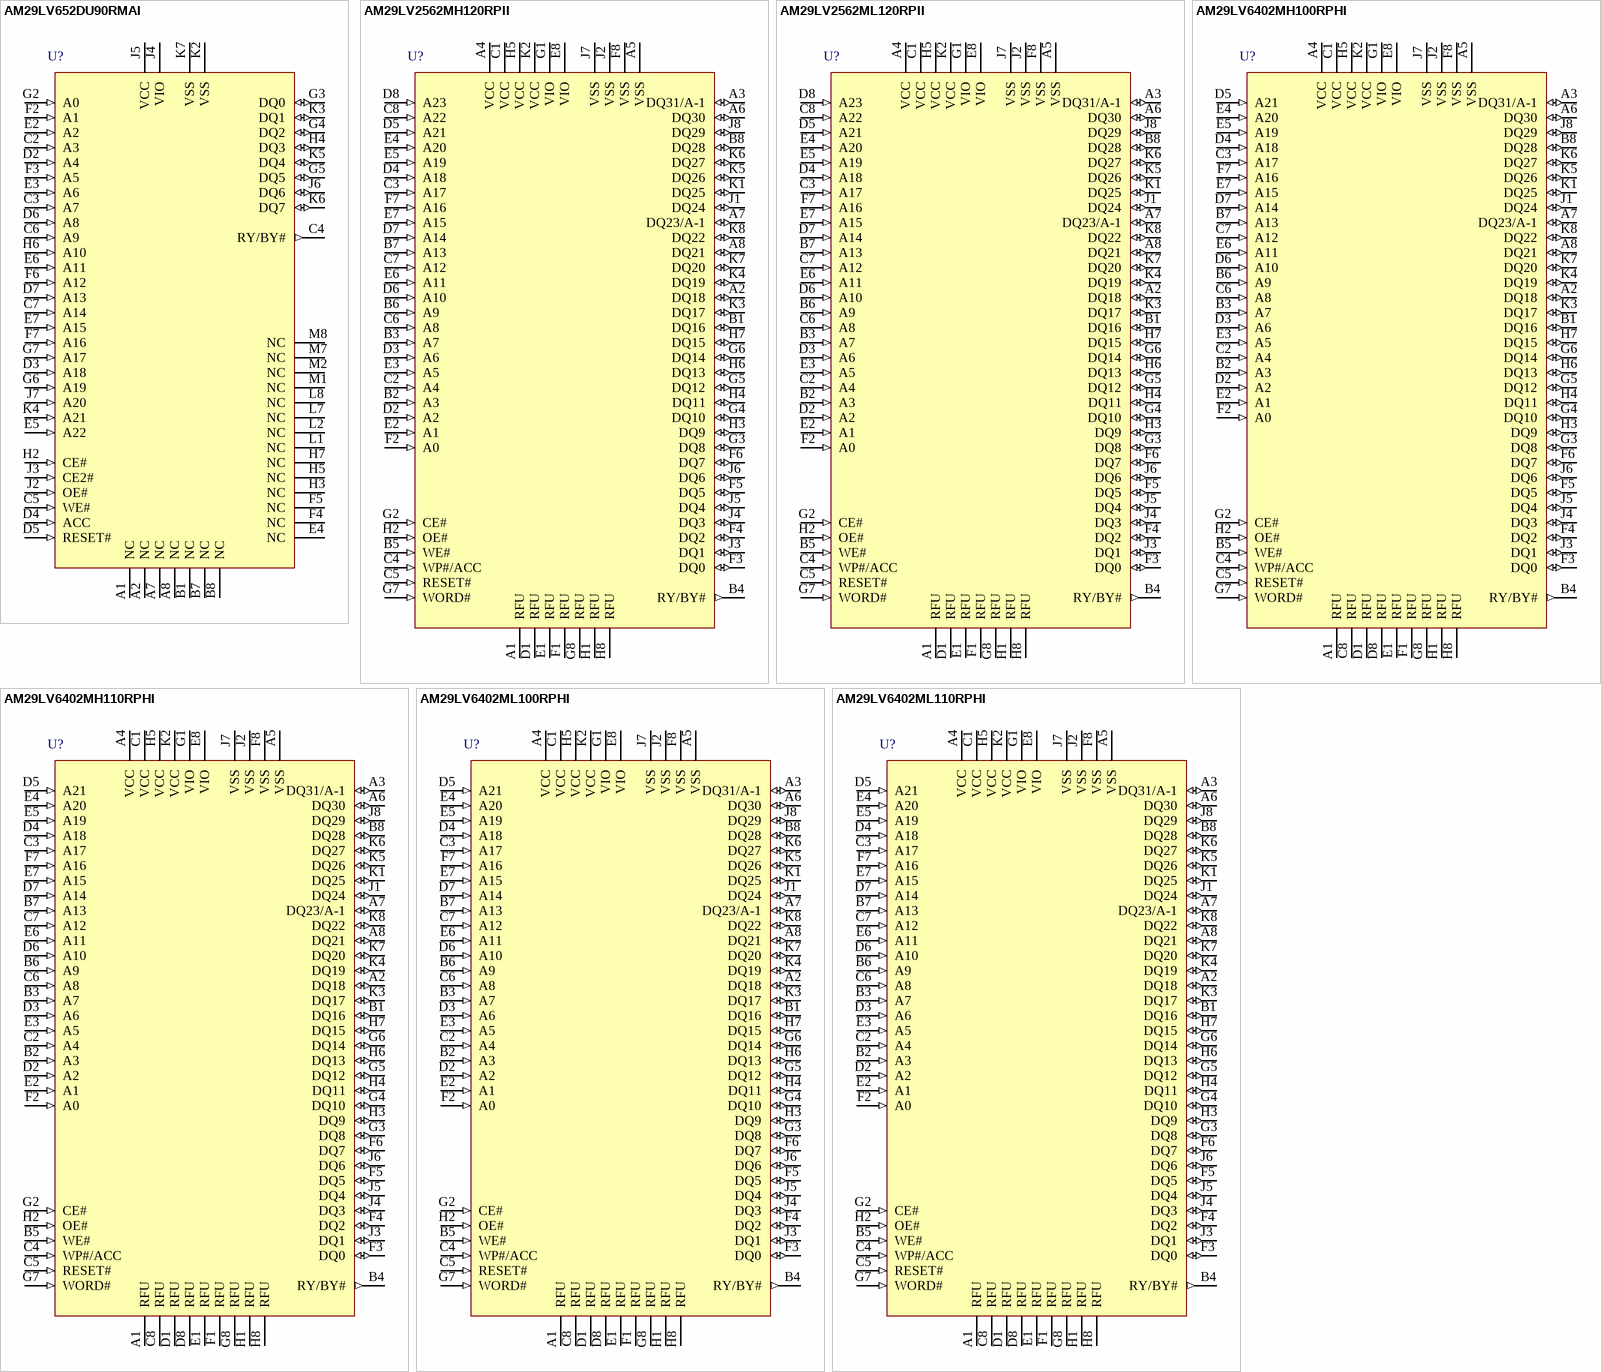
[diagram p66: symbols AM29LV652DU90RMAI to AM29LV6402ML110RPHI]

## AM29LV652DU90RMAI
designator U?
128 Mb (16 M x 8) CMOS 3.0 Volt Uniform Sector Flash Memory with VersatileI/O control, 63-Ball FBGA, Industrial Grade; Published: 6-Oct-2005; LatestRevisionDate: 13-Apr-2006; LatestRevisionNote: IPC-7351 Footprint Added.; DatasheetVersion: Oct-2004; PackageVersion: Oct-2004; PackageReference: FSA063; Publisher: Altium Limited; PackageDescription: 63-Ball Fine Pitch Ball Grid Array Rectangular 0.8 mm Pitch; ComponentLink1Description: Manufacturer Link; ComponentLink1URL: http://www.spansion.com/; ComponentLink2Description: Datasheet; ComponentLink2URL: http://www.spansion.com/datasheets/24961a4.pdf
footprint FSA063 (BGA, 63-Leads, Body 12x11mm, Pitch 0.8mm)
pins: A1 NC, A2 NC, A7 NC, A8 NC, B1 NC, B7 NC, B8 NC, C2 A3 (in), C3 A7 (in), C4 RY/BY# (out), C5 WE# (in), C6 A9 (in), C7 A14 (in), D2 A4 (in), D3 A18 (in), D4 ACC (in), D5 RESET# (in), D6 A8 (in), D7 A13 (in), E2 A2 (in), E3 A6 (in), E4 NC, E5 A22 (in), E6 A11 (in), E7 A15 (in), F2 A1 (in), F3 A5 (in), F4 NC, F5 NC, F6 A12 (in), F7 A16 (in), G2 A0 (in), G3 DQ0 (io), G4 DQ2 (io), G5 DQ5 (io), G6 A19 (in), G7 A17 (in), H2 CE# (in), H3 NC, H4 DQ3 (io), H5 NC, H6 A10 (in), H7 NC, J2 OE# (in), J3 CE2# (in), J4 VIO (power), J5 VCC (power), J6 DQ6 (io), J7 A20 (in), K2 VSS (power), K3 DQ1 (io), K4 A21 (in), K5 DQ4 (io), K6 DQ7 (io), K7 VSS (power), L1 NC, L2 NC, L7 NC, L8 NC, M1 NC, M2 NC, M7 NC, M8 NC

## AM29LV2562MH120RPII
designator U?
512 Mb (16 M x 32 / 32 M x 16) MirrorBit 3.0 Volt Uniform Sector Flash Memory with VersatileI/O control, 80-Ball Fortified BGA, Industrial Grade; Published: 6-Oct-2005; LatestRevisionDate: 13-Apr-2006; LatestRevisionNote: IPC-7351 Footprint Added.; DatasheetVersion: Oct-2003; PackageVersion: Oct-2003; PackageReference: LSC080; Publisher: Altium Limited; PackageDescription: 80-Ball Fortified Ball Grid Array Rectangular 1 mm Pitch; ComponentLink1Description: Manufacturer Link; ComponentLink1URL: http://www.spansion.com/; ComponentLink2Description: Datasheet; ComponentLink2URL: http://www.spansion.com/datasheets/26494.pdf
footprint LSC080 (BGA, 80-Leads, Body 18x12mm, Pitch 1mm)
pins: A1 RFU, A2 DQ18 (io), A3 DQ31/A-1 (io), A4 VCC (power), A5 VSS (power), A6 DQ30 (io), A7 DQ23/A-1 (io), A8 DQ21 (io), B1 DQ16 (io), B2 A3 (in), B3 A7 (in), B4 RY/BY# (out), B5 WE# (in), B6 A9 (in), B7 A13 (in), B8 DQ28 (io), C1 VCC (power), C2 A4 (in), C3 A17 (in), C4 WP#/ACC (in), C5 RESET# (in), C6 A8 (in), C7 A12 (in), C8 A22 (in), D1 RFU, D2 A2 (in), D3 A6 (in), D4 A18 (in), D5 A21 (in), D6 A10 (in), D7 A14 (in), D8 A23 (in), E1 RFU, E2 A1 (in), E3 A5 (in), E4 A20 (in), E5 A19 (in), E6 A11 (in), E7 A15 (in), E8 VIO (power), F1 RFU, F2 A0 (in), F3 DQ0 (io), F4 DQ2 (io), F5 DQ5 (io), F6 DQ7 (io), F7 A16 (in), F8 VSS (power), G1 VIO (power), G2 CE# (in), G3 DQ8 (io), G4 DQ10 (io), G5 DQ12 (io), G6 DQ14 (io), G7 WORD# (in), G8 RFU, H1 RFU, H2 OE# (in), H3 DQ9 (io), H4 DQ11 (io), H5 VCC (power), H6 DQ13 (io), H7 DQ15 (io), H8 RFU, J1 DQ24 (io), J2 VSS (power), J3 DQ1 (io), J4 DQ3 (io), J5 DQ4 (io), J6 DQ6 (io), J7 VSS (power), J8 DQ29 (io), K1 DQ25 (io), K2 VCC (power), K3 DQ17 (io), K4 DQ19 (io), K5 DQ26 (io), K6 DQ27 (io), K7 DQ20 (io), K8 DQ22 (io)

## AM29LV2562ML120RPII
designator U?
512 Mb (16 M x 32 / 32 M x 16) MirrorBit 3.0 Volt Uniform Sector Flash Memory with VersatileI/O control, 80-Ball Fortified BGA, Industrial Grade; Published: 6-Oct-2005; LatestRevisionDate: 13-Apr-2006; LatestRevisionNote: IPC-7351 Footprint Added.; DatasheetVersion: Oct-2003; PackageVersion: Oct-2003; PackageReference: LSC080; Publisher: Altium Limited; PackageDescription: 80-Ball Fortified Ball Grid Array Rectangular 1 mm Pitch; ComponentLink1Description: Manufacturer Link; ComponentLink1URL: http://www.spansion.com/; ComponentLink2Description: Datasheet; ComponentLink2URL: http://www.spansion.com/datasheets/26494.pdf
footprint LSC080 (BGA, 80-Leads, Body 18x12mm, Pitch 1mm)
pins: A1 RFU, A2 DQ18 (io), A3 DQ31/A-1 (io), A4 VCC (power), A5 VSS (power), A6 DQ30 (io), A7 DQ23/A-1 (io), A8 DQ21 (io), B1 DQ16 (io), B2 A3 (in), B3 A7 (in), B4 RY/BY# (out), B5 WE# (in), B6 A9 (in), B7 A13 (in), B8 DQ28 (io), C1 VCC (power), C2 A4 (in), C3 A17 (in), C4 WP#/ACC (in), C5 RESET# (in), C6 A8 (in), C7 A12 (in), C8 A22 (in), D1 RFU, D2 A2 (in), D3 A6 (in), D4 A18 (in), D5 A21 (in), D6 A10 (in), D7 A14 (in), D8 A23 (in), E1 RFU, E2 A1 (in), E3 A5 (in), E4 A20 (in), E5 A19 (in), E6 A11 (in), E7 A15 (in), E8 VIO (power), F1 RFU, F2 A0 (in), F3 DQ0 (io), F4 DQ2 (io), F5 DQ5 (io), F6 DQ7 (io), F7 A16 (in), F8 VSS (power), G1 VIO (power), G2 CE# (in), G3 DQ8 (io), G4 DQ10 (io), G5 DQ12 (io), G6 DQ14 (io), G7 WORD# (in), G8 RFU, H1 RFU, H2 OE# (in), H3 DQ9 (io), H4 DQ11 (io), H5 VCC (power), H6 DQ13 (io), H7 DQ15 (io), H8 RFU, J1 DQ24 (io), J2 VSS (power), J3 DQ1 (io), J4 DQ3 (io), J5 DQ4 (io), J6 DQ6 (io), J7 VSS (power), J8 DQ29 (io), K1 DQ25 (io), K2 VCC (power), K3 DQ17 (io), K4 DQ19 (io), K5 DQ26 (io), K6 DQ27 (io), K7 DQ20 (io), K8 DQ22 (io)

## AM29LV6402MH100RPHI
designator U?
128 Mb (4 M x 32 / 8 M x 16) MirrorBit 3.0 Volt Uniform Sector Flash Memory with VersatileI/O control, 80-Ball Fortified BGA, Industrial Grade; Published: 6-Oct-2005; LatestRevisionDate: 13-Apr-2006; LatestRevisionNote: IPC-7351 Footprint Added.; DatasheetVersion: Sep-2003; PackageVersion: Sep-2003; PackageReference: LSB080; Publisher: Altium Limited; PackageDescription: 80-Ball Fortified Ball Grid Array Rectangular 1 mm Pitch; ComponentLink1Description: Manufacturer Link; ComponentLink1URL: http://www.spansion.com/; ComponentLink2Description: Datasheet; ComponentLink2URL: http://www.spansion.com/datasheets/27552.pdf
footprint LSB080 (BGA, 80-Leads, Body 13x11mm, Pitch 1mm)
pins: A1 RFU, A2 DQ18 (io), A3 DQ31/A-1 (io), A4 VCC (power), A5 VSS (power), A6 DQ30 (io), A7 DQ23/A-1 (io), A8 DQ21 (io), B1 DQ16 (io), B2 A3 (in), B3 A7 (in), B4 RY/BY# (out), B5 WE# (in), B6 A9 (in), B7 A13 (in), B8 DQ28 (io), C1 VCC (power), C2 A4 (in), C3 A17 (in), C4 WP#/ACC (in), C5 RESET# (in), C6 A8 (in), C7 A12 (in), C8 RFU, D1 RFU, D2 A2 (in), D3 A6 (in), D4 A18 (in), D5 A21 (in), D6 A10 (in), D7 A14 (in), D8 RFU, E1 RFU, E2 A1 (in), E3 A5 (in), E4 A20 (in), E5 A19 (in), E6 A11 (in), E7 A15 (in), E8 VIO (power), F1 RFU, F2 A0 (in), F3 DQ0 (io), F4 DQ2 (io), F5 DQ5 (io), F6 DQ7 (io), F7 A16 (in), F8 VSS (power), G1 VIO (power), G2 CE# (in), G3 DQ8 (io), G4 DQ10 (io), G5 DQ12 (io), G6 DQ14 (io), G7 WORD# (in), G8 RFU, H1 RFU, H2 OE# (in), H3 DQ9 (io), H4 DQ11 (io), H5 VCC (power), H6 DQ13 (io), H7 DQ15 (io), H8 RFU, J1 DQ24 (io), J2 VSS (power), J3 DQ1 (io), J4 DQ3 (io), J5 DQ4 (io), J6 DQ6 (io), J7 VSS (power), J8 DQ29 (io), K1 DQ25 (io), K2 VCC (power), K3 DQ17 (io), K4 DQ19 (io), K5 DQ26 (io), K6 DQ27 (io), K7 DQ20 (io), K8 DQ22 (io)

## AM29LV6402MH110RPHI
designator U?
128 Mb (4 M x 32 / 8 M x 16) MirrorBit 3.0 Volt Uniform Sector Flash Memory with VersatileI/O control, 80-Ball Fortified BGA, Industrial Grade; Published: 6-Oct-2005; LatestRevisionDate: 13-Apr-2006; LatestRevisionNote: IPC-7351 Footprint Added.; DatasheetVersion: Sep-2003; PackageVersion: Sep-2003; PackageReference: LSB080; Publisher: Altium Limited; PackageDescription: 80-Ball Fortified Ball Grid Array Rectangular 1 mm Pitch; ComponentLink1Description: Manufacturer Link; ComponentLink1URL: http://www.spansion.com/; ComponentLink2Description: Datasheet; ComponentLink2URL: http://www.spansion.com/datasheets/27552.pdf
footprint LSB080 (BGA, 80-Leads, Body 13x11mm, Pitch 1mm)
pins: A1 RFU, A2 DQ18 (io), A3 DQ31/A-1 (io), A4 VCC (power), A5 VSS (power), A6 DQ30 (io), A7 DQ23/A-1 (io), A8 DQ21 (io), B1 DQ16 (io), B2 A3 (in), B3 A7 (in), B4 RY/BY# (out), B5 WE# (in), B6 A9 (in), B7 A13 (in), B8 DQ28 (io), C1 VCC (power), C2 A4 (in), C3 A17 (in), C4 WP#/ACC (in), C5 RESET# (in), C6 A8 (in), C7 A12 (in), C8 RFU, D1 RFU, D2 A2 (in), D3 A6 (in), D4 A18 (in), D5 A21 (in), D6 A10 (in), D7 A14 (in), D8 RFU, E1 RFU, E2 A1 (in), E3 A5 (in), E4 A20 (in), E5 A19 (in), E6 A11 (in), E7 A15 (in), E8 VIO (power), F1 RFU, F2 A0 (in), F3 DQ0 (io), F4 DQ2 (io), F5 DQ5 (io), F6 DQ7 (io), F7 A16 (in), F8 VSS (power), G1 VIO (power), G2 CE# (in), G3 DQ8 (io), G4 DQ10 (io), G5 DQ12 (io), G6 DQ14 (io), G7 WORD# (in), G8 RFU, H1 RFU, H2 OE# (in), H3 DQ9 (io), H4 DQ11 (io), H5 VCC (power), H6 DQ13 (io), H7 DQ15 (io), H8 RFU, J1 DQ24 (io), J2 VSS (power), J3 DQ1 (io), J4 DQ3 (io), J5 DQ4 (io), J6 DQ6 (io), J7 VSS (power), J8 DQ29 (io), K1 DQ25 (io), K2 VCC (power), K3 DQ17 (io), K4 DQ19 (io), K5 DQ26 (io), K6 DQ27 (io), K7 DQ20 (io), K8 DQ22 (io)

## AM29LV6402ML100RPHI
designator U?
128 Mb (4 M x 32 / 8 M x 16) MirrorBit 3.0 Volt Uniform Sector Flash Memory with VersatileI/O control, 80-Ball Fortified BGA, Industrial Grade; Published: 6-Oct-2005; LatestRevisionDate: 13-Apr-2006; LatestRevisionNote: IPC-7351 Footprint Added.; DatasheetVersion: Sep-2003; PackageVersion: Sep-2003; PackageReference: LSB080; Publisher: Altium Limited; PackageDescription: 80-Ball Fortified Ball Grid Array Rectangular 1 mm Pitch; ComponentLink1Description: Manufacturer Link; ComponentLink1URL: http://www.spansion.com/; ComponentLink2Description: Datasheet; ComponentLink2URL: http://www.spansion.com/datasheets/27552.pdf
footprint LSB080 (BGA, 80-Leads, Body 13x11mm, Pitch 1mm)
pins: A1 RFU, A2 DQ18 (io), A3 DQ31/A-1 (io), A4 VCC (power), A5 VSS (power), A6 DQ30 (io), A7 DQ23/A-1 (io), A8 DQ21 (io), B1 DQ16 (io), B2 A3 (in), B3 A7 (in), B4 RY/BY# (out), B5 WE# (in), B6 A9 (in), B7 A13 (in), B8 DQ28 (io), C1 VCC (power), C2 A4 (in), C3 A17 (in), C4 WP#/ACC (in), C5 RESET# (in), C6 A8 (in), C7 A12 (in), C8 RFU, D1 RFU, D2 A2 (in), D3 A6 (in), D4 A18 (in), D5 A21 (in), D6 A10 (in), D7 A14 (in), D8 RFU, E1 RFU, E2 A1 (in), E3 A5 (in), E4 A20 (in), E5 A19 (in), E6 A11 (in), E7 A15 (in), E8 VIO (power), F1 RFU, F2 A0 (in), F3 DQ0 (io), F4 DQ2 (io), F5 DQ5 (io), F6 DQ7 (io), F7 A16 (in), F8 VSS (power), G1 VIO (power), G2 CE# (in), G3 DQ8 (io), G4 DQ10 (io), G5 DQ12 (io), G6 DQ14 (io), G7 WORD# (in), G8 RFU, H1 RFU, H2 OE# (in), H3 DQ9 (io), H4 DQ11 (io), H5 VCC (power), H6 DQ13 (io), H7 DQ15 (io), H8 RFU, J1 DQ24 (io), J2 VSS (power), J3 DQ1 (io), J4 DQ3 (io), J5 DQ4 (io), J6 DQ6 (io), J7 VSS (power), J8 DQ29 (io), K1 DQ25 (io), K2 VCC (power), K3 DQ17 (io), K4 DQ19 (io), K5 DQ26 (io), K6 DQ27 (io), K7 DQ20 (io), K8 DQ22 (io)

## AM29LV6402ML110RPHI
designator U?
128 Mb (4 M x 32 / 8 M x 16) MirrorBit 3.0 Volt Uniform Sector Flash Memory with VersatileI/O control, 80-Ball Fortified BGA, Industrial Grade; Published: 6-Oct-2005; LatestRevisionDate: 13-Apr-2006; LatestRevisionNote: IPC-7351 Footprint Added.; DatasheetVersion: Sep-2003; PackageVersion: Sep-2003; PackageReference: LSB080; Publisher: Altium Limited; PackageDescription: 80-Ball Fortified Ball Grid Array Rectangular 1 mm Pitch; ComponentLink1Description: Manufacturer Link; ComponentLink1URL: http://www.spansion.com/; ComponentLink2Description: Datasheet; ComponentLink2URL: http://www.spansion.com/datasheets/27552.pdf
footprint LSB080 (BGA, 80-Leads, Body 13x11mm, Pitch 1mm)
pins: A1 RFU, A2 DQ18 (io), A3 DQ31/A-1 (io), A4 VCC (power), A5 VSS (power), A6 DQ30 (io), A7 DQ23/A-1 (io), A8 DQ21 (io), B1 DQ16 (io), B2 A3 (in), B3 A7 (in), B4 RY/BY# (out), B5 WE# (in), B6 A9 (in), B7 A13 (in), B8 DQ28 (io), C1 VCC (power), C2 A4 (in), C3 A17 (in), C4 WP#/ACC (in), C5 RESET# (in), C6 A8 (in), C7 A12 (in), C8 RFU, D1 RFU, D2 A2 (in), D3 A6 (in), D4 A18 (in), D5 A21 (in), D6 A10 (in), D7 A14 (in), D8 RFU, E1 RFU, E2 A1 (in), E3 A5 (in), E4 A20 (in), E5 A19 (in), E6 A11 (in), E7 A15 (in), E8 VIO (power), F1 RFU, F2 A0 (in), F3 DQ0 (io), F4 DQ2 (io), F5 DQ5 (io), F6 DQ7 (io), F7 A16 (in), F8 VSS (power), G1 VIO (power), G2 CE# (in), G3 DQ8 (io), G4 DQ10 (io), G5 DQ12 (io), G6 DQ14 (io), G7 WORD# (in), G8 RFU, H1 RFU, H2 OE# (in), H3 DQ9 (io), H4 DQ11 (io), H5 VCC (power), H6 DQ13 (io), H7 DQ15 (io), H8 RFU, J1 DQ24 (io), J2 VSS (power), J3 DQ1 (io), J4 DQ3 (io), J5 DQ4 (io), J6 DQ6 (io), J7 VSS (power), J8 DQ29 (io), K1 DQ25 (io), K2 VCC (power), K3 DQ17 (io), K4 DQ19 (io), K5 DQ26 (io), K6 DQ27 (io), K7 DQ20 (io), K8 DQ22 (io)